# Altium schematic symbol library 电源插座.SchLib: 1 symbol
Pins are listed as number, name and electrical type; pins without a type are passive.

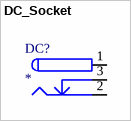
[diagram p0: symbol DC_Socket]

## DC_Socket
designator DC?
pins: 1 (power), 2 (power), 3 (power)